# Altium integrated library Altium_LED_WL-TMRC.IntLib: 11 symbols
Pins are listed as number, name and electrical type; pins without a type are passive.

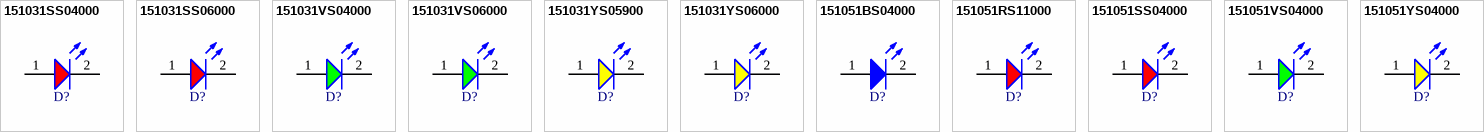
[diagram p0: symbols 151031SS04000 to 151051YS04000]

## 151031SS04000
designator D?, comment Super Red, 2V, 40°  (value not drawn)
WL-TMRC Mono-color Round Color, THT, D3.95 x H5.3mm, Super Red, 2V, 40°; Manufacturer Part Number: 151031SS04000; Manufacturer: Wurth Elektronik; Case/Size Code: 3mm; Chip Technology: AlInGaP; Dominant Wavelength: 635nm; Luminous Intensity: 160mcd; Peak Wavelength: 640nm; Category: Signal LEDs; Match Code: WL-TMRC; ComponentLink1Description: Website Link; ComponentLink1URL: https://www.we-online.com/redexpert/article/151031SS04000?ad; ComponentLink2Description: Datasheet Link; ComponentLink2URL: https://www.we-online.com/redexpert/spec/151031SS04000?ad; Mount: Through Hole; Operating Temperature Max: 85°C; Operating Temperature Min: -40°C; Packaging: Bulk; Height: 5.3mm; Diameter: 3.95mm; Emitting Color: Super Red; Forward Voltage: 2V; Viewing Angle: 40°
footprint WL-TMRC_D3.95H5.3
simulation model 3mm_151031SS04000
pins: 1 A, 2 K

## 151031SS06000
designator D?, comment Super Red, 2.2V, 60°  (value not drawn)
WL-TMRC Mono-color Round Color, THT, D3.95 x H5.3mm, Super Red, 2.2V, 60°; Manufacturer Part Number: 151031SS06000; Manufacturer: Wurth Elektronik; Case/Size Code: 3mm; Chip Technology: AlGaAs; Dominant Wavelength: 640nm; Luminous Intensity: 35mcd; Peak Wavelength: 650nm; Category: Signal LEDs; Match Code: WL-TMRC; ComponentLink1Description: Website Link; ComponentLink1URL: https://www.we-online.com/redexpert/article/151031SS06000?ad; ComponentLink2Description: Datasheet Link; ComponentLink2URL: https://www.we-online.com/redexpert/spec/151031SS06000?ad; Mount: Through Hole; Operating Temperature Max: 85°C; Operating Temperature Min: -40°C; Packaging: Bulk; Height: 5.3mm; Diameter: 3.95mm; Emitting Color: Super Red; Forward Voltage: 2.2V; Viewing Angle: 60°
footprint WL-TMRC_D3.95H5.3
simulation model 3mm_151031SS06000
pins: 1 A, 2 K

## 151031VS04000
designator D?, comment Bright Green, 2.1V, 40°  (value not drawn)
WL-TMRC Mono-color Round Color, THT, D3.95 x H5.3mm, Bright Green, 2.1V, 40°; Manufacturer Part Number: 151031VS04000; Manufacturer: Wurth Elektronik; Case/Size Code: 3mm; Chip Technology: AlInGaP; Dominant Wavelength: 570nm; Luminous Intensity: 120mcd; Peak Wavelength: 573nm; Category: Signal LEDs; Match Code: WL-TMRC; ComponentLink1Description: Website Link; ComponentLink1URL: https://www.we-online.com/redexpert/article/151031VS04000?ad; ComponentLink2Description: Datasheet Link; ComponentLink2URL: https://www.we-online.com/redexpert/spec/151031VS04000?ad; Mount: Through Hole; Operating Temperature Max: 85°C; Operating Temperature Min: -40°C; Packaging: Bulk; Height: 5.3mm; Diameter: 3.95mm; Emitting Color: Bright Green; Forward Voltage: 2.1V; Viewing Angle: 40°
footprint WL-TMRC_D3.95H5.3
simulation model 3mm_151031VS04000
pins: 1 A, 2 K

## 151031VS06000
designator D?, comment Bright Green, 2.2V, 60°  (value not drawn)
WL-TMRC Mono-color Round Color, THT, D3.95 x H5.3mm, Bright Green, 2.2V, 60°; Manufacturer Part Number: 151031VS06000; Manufacturer: Wurth Elektronik; Case/Size Code: 3mm; Chip Technology: GaAsP/GaP; Dominant Wavelength: 568nm; Luminous Intensity: 30mcd; Peak Wavelength: 560nm; Category: Signal LEDs; Match Code: WL-TMRC; ComponentLink1Description: Website Link; ComponentLink1URL: https://www.we-online.com/redexpert/article/151031VS06000?ad; ComponentLink2Description: Datasheet Link; ComponentLink2URL: https://www.we-online.com/redexpert/spec/151031VS06000?ad; Mount: Through Hole; Operating Temperature Max: 85°C; Operating Temperature Min: -40°C; Packaging: Bulk; Height: 5.3mm; Diameter: 3.95mm; Emitting Color: Bright Green; Forward Voltage: 2.2V; Viewing Angle: 60°
footprint WL-TMRC_D3.95H5.3
simulation model 3mm_151031VS06000
pins: 1 A, 2 K

## 151031YS05900
designator D?, comment Yellow, 2.1V, 60°  (value not drawn)
WL-TMRC Mono-color Round Color, THT, D3.95 x H5.3mm, Yellow, 2.1V, 60°; Manufacturer Part Number: 151031YS05900; Manufacturer: Wurth Elektronik; Case/Size Code: 3mm; Chip Technology: GaAsP/GaP; Dominant Wavelength: 590nm; Luminous Intensity: 30mcd; Peak Wavelength: 585nm; Category: Signal LEDs; Match Code: WL-TMRC; ComponentLink1Description: Website Link; ComponentLink1URL: https://www.we-online.com/redexpert/article/151031YS05900?ad; ComponentLink2Description: Datasheet Link; ComponentLink2URL: https://www.we-online.com/redexpert/spec/151031YS05900?ad; Mount: Through Hole; Operating Temperature Max: 85°C; Operating Temperature Min: -40°C; Packaging: Bulk; Height: 5.3mm; Diameter: 3.95mm; Emitting Color: Yellow; Forward Voltage: 2.1V; Viewing Angle: 60°
footprint WL-TMRC_D3.95H5.3
simulation model 3mm_151031YS05900
pins: 1 A, 2 K

## 151031YS06000
designator D?, comment Yellow, 2V, 60°  (value not drawn)
WL-TMRC Mono-color Round Color, THT, D3.95 x H5.3mm, Yellow, 2V, 60°; Manufacturer Part Number: 151031YS06000; Manufacturer: Wurth Elektronik; Case/Size Code: 3mm; Chip Technology: AlInGaP; Dominant Wavelength: 590nm; Luminous Intensity: 110mcd; Peak Wavelength: 592nm; Category: Signal LEDs; Match Code: WL-TMRC; ComponentLink1Description: Website Link; ComponentLink1URL: https://www.we-online.com/redexpert/article/151031YS06000?ad; ComponentLink2Description: Datasheet Link; ComponentLink2URL: https://www.we-online.com/redexpert/spec/151031YS06000?ad; Mount: Through Hole; Operating Temperature Max: 85°C; Operating Temperature Min: -40°C; Packaging: Bulk; Height: 5.3mm; Diameter: 3.95mm; Emitting Color: Yellow; Forward Voltage: 2V; Viewing Angle: 60°
footprint WL-TMRC_D3.95H5.3
simulation model 3mm_151031YS06000
pins: 1 A, 2 K

## 151051BS04000
designator D?, comment Blue, 3.2V, 40°  (value not drawn)
WL-TMRC Mono-color Round Color, THT, D5.9 x H8.7mm, Blue, 3.2V, 40°; Manufacturer Part Number: 151051BS04000; Manufacturer: Wurth Elektronik; Case/Size Code: 5mm; Chip Technology: GaN; Dominant Wavelength: 470nm; Luminous Intensity: 500mcd; Peak Wavelength: 465nm; Category: Signal LEDs; Match Code: WL-TMRC; ComponentLink1Description: Website Link; ComponentLink1URL: https://www.we-online.com/redexpert/article/151051BS04000?ad; ComponentLink2Description: Datasheet Link; ComponentLink2URL: https://www.we-online.com/redexpert/spec/151051BS04000?ad; Mount: Through Hole; Operating Temperature Max: 85°C; Operating Temperature Min: -40°C; Packaging: Bulk; Height: 8.7mm; Diameter: 5.9mm; Emitting Color: Blue; Forward Voltage: 3.2V; Viewing Angle: 40°
footprint WL-TMRC_D5.9H8.7
simulation model 5mm_151051BS04000
pins: 1 A, 2 K

## 151051RS11000
designator D?, comment Red, 2.1V, 60°  (value not drawn)
WL-TMRC Mono-color Round Color, THT, D5.9 x H8.7mm, Red, 2.1V, 60°; Manufacturer Part Number: 151051RS11000; Manufacturer: Wurth Elektronik; Case/Size Code: 5mm; Chip Technology: AlGaInP; Dominant Wavelength: 645nm; Luminous Intensity: 30mcd; Peak Wavelength: 650nm; Category: Signal LEDs; Match Code: WL-TMRC; ComponentLink1Description: Website Link; ComponentLink1URL: https://www.we-online.com/redexpert/article/151051RS11000?ad; ComponentLink2Description: Datasheet Link; ComponentLink2URL: https://www.we-online.com/redexpert/spec/151051RS11000?ad; Mount: Through Hole; Operating Temperature Max: 85°C; Operating Temperature Min: -40°C; Packaging: Bulk; Height: 8.7mm; Diameter: 5.9mm; Emitting Color: Red; Forward Voltage: 2.1V; Viewing Angle: 60°
footprint WL-TMRC_D5.9H8.7
simulation model 5mm_151051RS11000
pins: 1 A, 2 K

## 151051SS04000
designator D?, comment Super Red, 2.1V, 40°  (value not drawn)
WL-TMRC Mono-color Round Color, THT, D5.9 x H8.7mm, Super Red, 2.1V, 40°; Manufacturer Part Number: 151051SS04000; Manufacturer: Wurth Elektronik; Case/Size Code: 5mm; Chip Technology: AlInGaP; Dominant Wavelength: 635nm; Luminous Intensity: 250mcd; Peak Wavelength: 640nm; Category: Signal LEDs; Match Code: WL-TMRC; ComponentLink1Description: Website Link; ComponentLink1URL: https://www.we-online.com/redexpert/article/151051SS04000?ad; ComponentLink2Description: Datasheet Link; ComponentLink2URL: https://www.we-online.com/redexpert/spec/151051SS04000?ad; Mount: Through Hole; Operating Temperature Max: 85°C; Operating Temperature Min: -40°C; Packaging: Bulk; Height: 8.7mm; Diameter: 5.9mm; Emitting Color: Super Red; Forward Voltage: 2.1V; Viewing Angle: 40°
footprint WL-TMRC_D5.9H8.7
simulation model 5mm_151051SS04000
pins: 1 A, 2 K

## 151051VS04000
designator D?, comment Bright Green, 2.1V, 40°  (value not drawn)
WL-TMRC Mono-color Round Color, THT, D5.9 x H8.7mm, Bright Green, 2.1V, 40°; Manufacturer Part Number: 151051VS04000; Manufacturer: Wurth Elektronik; Case/Size Code: 5mm; Chip Technology: AlInGaP; Dominant Wavelength: 572nm; Luminous Intensity: 140mcd; Peak Wavelength: 573nm; Category: Signal LEDs; Match Code: WL-TMRC; ComponentLink1Description: Website Link; ComponentLink1URL: https://www.we-online.com/redexpert/article/151051VS04000?ad; ComponentLink2Description: Datasheet Link; ComponentLink2URL: https://www.we-online.com/redexpert/spec/151051VS04000?ad; Mount: Through Hole; Operating Temperature Max: 85°C; Operating Temperature Min: -40°C; Packaging: Bulk; Height: 8.7mm; Diameter: 5.9mm; Emitting Color: Bright Green; Forward Voltage: 2.1V; Viewing Angle: 40°
footprint WL-TMRC_D5.9H8.7
simulation model 5mm_151051VS04000
pins: 1 A, 2 K

## 151051YS04000
designator D?, comment Yellow, 2V, 40°  (value not drawn)
WL-TMRC Mono-color Round Color, THT, D5.9 x H8.7mm, Yellow, 2V, 40°; Manufacturer Part Number: 151051YS04000; Manufacturer: Wurth Elektronik; Case/Size Code: 5mm; Chip Technology: AlInGaP; Dominant Wavelength: 590nm; Luminous Intensity: 450mcd; Peak Wavelength: 592nm; Category: Signal LEDs; Match Code: WL-TMRC; ComponentLink1Description: Website Link; ComponentLink1URL: https://www.we-online.com/redexpert/article/151051YS04000?ad; ComponentLink2Description: Datasheet Link; ComponentLink2URL: https://www.we-online.com/redexpert/spec/151051YS04000?ad; Mount: Through Hole; Operating Temperature Max: 85°C; Operating Temperature Min: -40°C; Packaging: Bulk; Height: 8.7mm; Diameter: 5.9mm; Emitting Color: Yellow; Forward Voltage: 2V; Viewing Angle: 40°
footprint WL-TMRC_D5.9H8.7
simulation model 5mm_151051YS04000
pins: 1 A, 2 K